# Altium schematic symbol library WE-AGDT.SchLib: 29 symbols
Pins are listed as number, name and electrical type; pins without a type are passive.

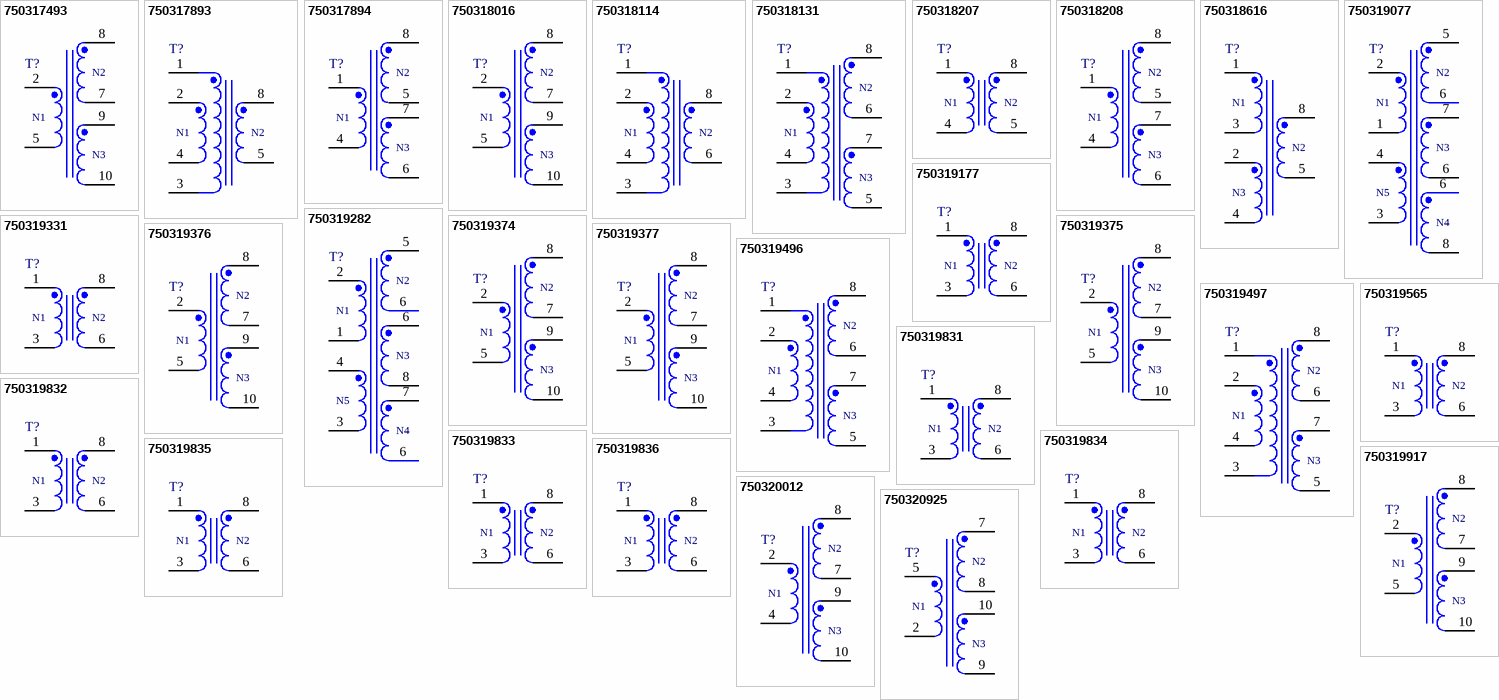
[diagram p0: symbols 750317493 to 750320925]

## 750317493
designator T?, comment 15Vin, 20 / 20Vout  (value not drawn)
WE-AGDT Auxiliary Gate Drive Transformer, SMT, 2015, 15Vin, 20 / 20Vout, 900uH; Manufacturer Part Number: 750317493; Manufacturer: Wurth Elektronik; Case/Size Code: 2015; IC Reference: IR2085S; Input Voltage: 15V; Interwinding Capacitance: 7pF; Output Power: 4W; Output Voltage: 20V; Switching Frequency: 100kHz; Turns Ratio: 1:1.07:1.07; Type: Half-Bridge; Voltage-µSecond: 147Vus; Product Series: WE-AGDT; ComponentLink1Description: Website Link; ComponentLink1URL: https://www.we-online.com; ComponentLink2Description: Datasheet Link; ComponentLink2URL: https://www.we-online.com/components/products/datasheet/750317493; Mount: Surface Mount; Operating Temperature Min: -40degC; Operating Temperature Max: 125degC; Packaging: Tape and Reel; Length: 20.48mm; Width: 15.32mm; Height: 10.3mm; Inductance: 900uH; Output Voltage 2: 20V
footprint WE-AGDT_2015
pins: 2, 5, 7, 8, 9, 10
text: N2; N1; N3

## 750317893
designator T?, comment 9-18Vin, 19Vout  (value not drawn)
WE-AGDT Auxiliary Gate Drive Transformer, SMT, EP7, 9-18Vin, 19Vout, 18uH; Manufacturer Part Number: 750317893; Manufacturer: Wurth Elektronik; IC Reference: LM5180; Input Voltage: 9-18V; Interwinding Capacitance: 6.8pF; Output Power: 3W; Output Voltage: 19V; Saturation Current: 1.95A; Switching Frequency: 350kHz; Turns Ratio: 1:2; Type: Flyback; Product Series: WE-AGDT; ComponentLink1Description: Website Link; ComponentLink1URL: https://www.we-online.com; ComponentLink2Description: Datasheet Link; ComponentLink2URL: https://www.we-online.com/components/products/datasheet/750317893; Mount: Surface Mount; Operating Temperature Min: -40degC; Operating Temperature Max: 130degC; Packaging: Tape and Reel; Case/Size Code: EP7; Length: 11.3mm; Width: 10.95mm; Height: 11.94mm; Inductance: 18uH
footprint WE-AGDT_EP7
simulation model 750317893
pins: 1, 2, 3, 4, 5, 8
text: N1; N2

## 750317894
designator T?, comment 9-18Vin, 15 / -4Vout  (value not drawn)
WE-AGDT Auxiliary Gate Drive Transformer, SMT, EP7, 9-18Vin, 15 / -4Vout, 18uH; Manufacturer Part Number: 750317894; Manufacturer: Wurth Elektronik; IC Reference: LM5180; Input Voltage: 9-18V; Interwinding Capacitance: 7pF; Output Power: 3W; Output Voltage: 15V; Output Voltage 2: -4V; Saturation Current: 1.6A; Switching Frequency: 350kHz; Turns Ratio: 2.25:3.5:1; Type: Flyback; Product Series: WE-AGDT; ComponentLink1Description: Website Link; ComponentLink1URL: https://www.we-online.com; ComponentLink2Description: Datasheet Link; ComponentLink2URL: https://www.we-online.com/components/products/datasheet/750317894; Mount: Surface Mount; Operating Temperature Min: -40degC; Operating Temperature Max: 130degC; Packaging: Tape and Reel; Case/Size Code: EP7; Length: 11.3mm; Width: 10.95mm; Height: 11.94mm; Inductance: 18uH
footprint WE-AGDT_EP7
simulation model 750317894
pins: 1, 4, 5, 6, 7, 8
text: N2; N1; N3

## 750318016
designator T?, comment 15Vin, 29 / 29Vout  (value not drawn)
WE-AGDT Auxiliary Gate Drive Transformer, SMT, 2015, 15Vin, 29 / 29Vout, 900uH; Manufacturer Part Number: 750318016; Manufacturer: Wurth Elektronik; Case/Size Code: 2015; IC Reference: IR2085S; Input Voltage: 15V; Interwinding Capacitance: 6pF; Output Power: 4.7W; Output Voltage: 29V; Switching Frequency: 100kHz; Turns Ratio: 1:1.07:1.07; Type: Half-Bridge; Voltage-µSecond: 157Vus; Product Series: WE-AGDT; ComponentLink1Description: Website Link; ComponentLink1URL: https://www.we-online.com; ComponentLink2Description: Datasheet Link; ComponentLink2URL: https://www.we-online.com/components/products/datasheet/750318016; Mount: Surface Mount; Operating Temperature Min: -40degC; Operating Temperature Max: 125degC; Packaging: Tape and Reel; Length: 20.48mm; Width: 15.32mm; Height: 10.3mm; Inductance: 900uH; Output Voltage 2: 29V
footprint WE-AGDT_2015
pins: 2, 5, 7, 8, 9, 10
text: N2; N1; N3

## 750318114
designator T?, comment 9-18Vin, 19Vout  (value not drawn)
WE-AGDT Auxiliary Gate Drive Transformer, SMT, EP7, 9-18Vin, 19Vout, 6uH; Manufacturer Part Number: 750318114; Manufacturer: Wurth Elektronik; IC Reference: LT8302; Input Voltage: 9-18V; Interwinding Capacitance: 6.8pF; Output Power: 6W; Output Voltage: 19V; Saturation Current: 6.2A; Switching Frequency: 350kHz; Turns Ratio: 1:2; Type: Flyback; Product Series: WE-AGDT; ComponentLink1Description: Website Link; ComponentLink1URL: https://www.we-online.com; ComponentLink2Description: Datasheet Link; ComponentLink2URL: https://www.we-online.com/components/products/datasheet/750318114; Mount: Surface Mount; Operating Temperature Min: -40degC; Operating Temperature Max: 130degC; Packaging: Tape and Reel; Case/Size Code: EP7; Length: 11.3mm; Width: 10.95mm; Height: 11.94mm; Inductance: 6uH
footprint WE-AGDT_EP7
simulation model 750318114
pins: 1, 2, 3, 4, 6, 8
text: N1; N2

## 750318131
designator T?, comment 9-18Vin, 15 / -4Vout  (value not drawn)
WE-AGDT Auxiliary Gate Drive Transformer, SMT, EP7, 9-18Vin, 15 / -4Vout, 7uH; Manufacturer Part Number: 750318131; Manufacturer: Wurth Elektronik; IC Reference: LT8302; Input Voltage: 9-18V; Interwinding Capacitance: 7.5pF; Output Power: 6W; Output Voltage: 15V; Output Voltage 2: -4V; Saturation Current: 5A; Switching Frequency: 350kHz; Turns Ratio: 2.25:3.5:1; Type: Flyback; Product Series: WE-AGDT; ComponentLink1Description: Website Link; ComponentLink1URL: https://www.we-online.com; ComponentLink2Description: Datasheet Link; ComponentLink2URL: https://www.we-online.com/components/products/datasheet/750318131; Mount: Surface Mount; Operating Temperature Min: -40degC; Operating Temperature Max: 130degC; Packaging: Tape and Reel; Case/Size Code: EP7; Length: 11.3mm; Width: 10.95mm; Height: 11.94mm; Inductance: 7uH
footprint WE-AGDT_EP7
simulation model 750318131
pins: 1, 2, 3, 4, 5, 6, 7, 8
text: N2; N1; N3

## 750318207
designator T?, comment 18-36Vin, 19Vout  (value not drawn)
WE-AGDT Auxiliary Gate Drive Transformer, SMT, EP7, 18-36Vin, 19Vout, 27uH; Manufacturer Part Number: 750318207; Manufacturer: Wurth Elektronik; IC Reference: LM5180; Input Voltage: 18-36V; Interwinding Capacitance: 8.2pF; Output Power: 5W; Output Voltage: 19V; Saturation Current: 2A; Switching Frequency: 350kHz; Turns Ratio: 1:1.2; Type: Flyback; Product Series: WE-AGDT; ComponentLink1Description: Website Link; ComponentLink1URL: https://www.we-online.com; ComponentLink2Description: Datasheet Link; ComponentLink2URL: https://www.we-online.com/components/products/datasheet/750318207; Mount: Surface Mount; Operating Temperature Min: -40degC; Operating Temperature Max: 130degC; Packaging: Tape and Reel; Case/Size Code: EP7; Length: 11.3mm; Width: 10.95mm; Height: 11.94mm; Inductance: 27uH
footprint WE-AGDT_EP7
simulation model 750318207
pins: 1, 4, 5, 8
text: N1; N2

## 750318208
designator T?, comment 18-36Vin, 15 / -4Vout  (value not drawn)
WE-AGDT Auxiliary Gate Drive Transformer, SMT, EP7, 18-36Vin, 15 / -4Vout, 27uH; Manufacturer Part Number: 750318208; Manufacturer: Wurth Elektronik; IC Reference: LM5180; Input Voltage: 18-36V; Interwinding Capacitance: 7pF; Output Power: 5W; Output Voltage: 15V; Output Voltage 2: -4V; Saturation Current: 1.5A; Switching Frequency: 350kHz; Turns Ratio: 3.5:3.5:1; Type: Flyback; Product Series: WE-AGDT; ComponentLink1Description: Website Link; ComponentLink1URL: https://www.we-online.com; ComponentLink2Description: Datasheet Link; ComponentLink2URL: https://www.we-online.com/components/products/datasheet/750318208; Mount: Surface Mount; Operating Temperature Min: -40degC; Operating Temperature Max: 130degC; Packaging: Tape and Reel; Case/Size Code: EP7; Length: 11.3mm; Width: 10.95mm; Height: 11.94mm; Inductance: 27uH
footprint WE-AGDT_EP7
simulation model 750318208
pins: 1, 4, 5, 6, 7, 8
text: N2; N1; N3

## 750318616
designator T?, comment 7-31Vin, 27Vout  (value not drawn)
WE-AGDT Auxiliary Gate Drive Transformer, SMT, EP7, 7-31Vin, 27Vout, 10uH; Manufacturer Part Number: 750318616; Manufacturer: Wurth Elektronik; Auxiliary Voltage: 13V; IC Reference: STGAP4S; Input Voltage: 7-31V; Interwinding Capacitance: 3.25pF; Output Power: 2.7W; Output Voltage: 27V; Saturation Current: 2A; Switching Frequency: 400kHz; Turns Ratio: 1.2:2:1; Type: Flyback; Product Series: WE-AGDT; ComponentLink1Description: Website Link; ComponentLink1URL: https://www.we-online.com; ComponentLink2Description: Datasheet Link; ComponentLink2URL: https://www.we-online.com/components/products/datasheet/750318616; Mount: Surface Mount; Operating Temperature Min: -40degC; Operating Temperature Max: 130degC; Packaging: Tape and Reel; Case/Size Code: EP7; Length: 11.3mm; Width: 10.95mm; Height: 11.94mm; Inductance: 10uH
footprint WE-AGDT_EP7
simulation model 750318616
pins: 1, 2, 3, 4, 5, 8
text: N1; N2; N3

## 750319077
designator T?, comment 12-18Vin, 15 / 7.5 / 7.5Vout  (value not drawn)
WE-AGDT Auxiliary Gate Drive Transformer, SMT, EP7, 12-18Vin, 15 / 7.5 / 7.5Vout, 42uH; Manufacturer Part Number: 750319077; Manufacturer: Wurth Elektronik; Auxiliary Voltage: 5V; IC Reference: NCV(P)3064; Input Voltage: 12-18V; Interwinding Capacitance: 7.8pF; Output Power: 1.5W; Output Voltage: 15V; Output Voltage 2: 7.5V; Saturation Current: 1.25A; Switching Frequency: 150kHz; Turns Ratio: 2:2.86:1.43:1.43:1; Type: Flyback; Product Series: WE-AGDT; ComponentLink1Description: Website Link; ComponentLink1URL: https://www.we-online.com; ComponentLink2Description: Datasheet Link; ComponentLink2URL: https://www.we-online.com/components/products/datasheet/750319077; Mount: Surface Mount; Operating Temperature Min: -40degC; Operating Temperature Max: 130degC; Packaging: Tape and Reel; Case/Size Code: EP7; Length: 11.3mm; Width: 10.95mm; Height: 11.94mm; Inductance: 42uH; Output Voltage 3: 7.5V
footprint WE-AGDT_EP7
simulation model 750319077
pins: 1, 2, 3, 4, 5, 6, 7, 8
text: N2; N1; N3; N5; N4

## 750319177
designator T?, comment 7.5Vin, 13Vout  (value not drawn)
WE-AGDT Auxiliary Gate Drive Transformer, SMT, EP7, 7.5Vin, 13Vout, 16.5uH; Manufacturer Part Number: 750319177; Manufacturer: Wurth Elektronik; IC Reference: UCC25800; Input Voltage: 7.5V; Interwinding Capacitance: 0.68pF; Output Power: 4.55W; Output Voltage: 13V; Switching Frequency: 500kHz; Turns Ratio: 1:1.67; Type: LLC; Voltage-µSecond: 36Vus; Product Series: WE-AGDT; ComponentLink1Description: Website Link; ComponentLink1URL: https://www.we-online.com; ComponentLink2Description: Datasheet Link; ComponentLink2URL: https://www.we-online.com/components/products/datasheet/750319177; Mount: Surface Mount; Operating Temperature Min: -40degC; Operating Temperature Max: 130degC; Packaging: Tape and Reel; Case/Size Code: EP7; Length: 11.3mm; Width: 10.95mm; Height: 11.94mm; Inductance: 16.5uH
footprint WE-AGDT_EP7
simulation model 750319177
pins: 1, 3, 6, 8
text: N1; N2

## 750319282
designator T?, comment 6-18Vin, 20 / 5 / 5Vout  (value not drawn)
WE-AGDT Auxiliary Gate Drive Transformer, SMT, EP7, 6-18Vin, 20 / 5 / 5Vout, 42uH; Manufacturer Part Number: 750319282; Manufacturer: Wurth Elektronik; Auxiliary Voltage: 5V; IC Reference: NCV(P)3064; Input Voltage: 6-18V; Interwinding Capacitance: 6.4pF; Output Power: 1.5W; Output Voltage: 20V; Saturation Current: 1.2A; Switching Frequency: 150kHz; Turns Ratio: 1.56:3.89:1:1:1; Type: Flyback; Product Series: WE-AGDT; ComponentLink1Description: Website Link; ComponentLink1URL: https://www.we-online.com; ComponentLink2Description: Datasheet Link; ComponentLink2URL: https://www.we-online.com/components/products/datasheet/750319282; Mount: Surface Mount; Operating Temperature Min: -40degC; Operating Temperature Max: 130degC; Packaging: Tape and Reel; Case/Size Code: EP7; Length: 11.3mm; Width: 10.95mm; Height: 11.94mm; Inductance: 42uH; Output Voltage 2: 5V; Output Voltage 3: 5V
footprint WE-AGDT_EP7
simulation model 750319282
pins: 1, 2, 3, 4, 5, 6, 7, 8
text: N2; N1; N3; N5; N4

## 750319331
designator T?, comment 13Vin, 11.5Vout  (value not drawn)
WE-AGDT Auxiliary Gate Drive Transformer, SMT, EP7, 13Vin, 11.5Vout, 50uH; Manufacturer Part Number: 750319331; Manufacturer: Wurth Elektronik; IC Reference: UCC25800; Input Voltage: 13V; Interwinding Capacitance: 1.3pF; Output Power: 6W; Output Voltage: 11.5V; Switching Frequency: 500kHz; Turns Ratio: 1:1; Type: LLC; Voltage-µSecond: 60Vus; Product Series: WE-AGDT; ComponentLink1Description: Website Link; ComponentLink1URL: https://www.we-online.com; ComponentLink2Description: Datasheet Link; ComponentLink2URL: https://www.we-online.com/components/products/datasheet/750319331; Mount: Surface Mount; Operating Temperature Min: -40degC; Operating Temperature Max: 130degC; Packaging: Tape and Reel; Case/Size Code: EP7; Length: 11.3mm; Width: 10.95mm; Height: 11.94mm; Inductance: 50uH
footprint WE-AGDT_EP7
simulation model 750319331
pins: 1, 3, 6, 8
text: N1; N2

## 750319374
designator T?, comment 13.5Vin, 22.5 / 22.5Vout  (value not drawn)
WE-AGDT Auxiliary Gate Drive Transformer, SMT, 2015, 13.5Vin, 22.5 / 22.5Vout, 730uH; Manufacturer Part Number: 750319374; Manufacturer: Wurth Elektronik; Case/Size Code: 2015; IC Reference: 2EP130R; Input Voltage: 13.5V; Interwinding Capacitance: 4pF; Output Power: 5.9W; Output Voltage: 22.5V; Switching Frequency: 97kHz; Turns Ratio: 1.71:1:1; Type: Full-Bridge; Voltage-µSecond: 126Vus; Product Series: WE-AGDT; ComponentLink1Description: Website Link; ComponentLink1URL: https://www.we-online.com; ComponentLink2Description: Datasheet Link; ComponentLink2URL: https://www.we-online.com/components/products/datasheet/750319374; Mount: Surface Mount; Operating Temperature Min: -40degC; Operating Temperature Max: 125degC; Packaging: Tape and Reel; Length: 20.48mm; Width: 15.32mm; Height: 10.3mm; Inductance: 730uH; Output Voltage 2: 22.5V
footprint WE-AGDT_2015
pins: 2, 5, 7, 8, 9, 10
text: N2; N1; N3

## 750319375
designator T?, comment 15Vin, 22.5 / 22.5Vout  (value not drawn)
WE-AGDT Auxiliary Gate Drive Transformer, SMT, 2015, 15Vin, 22.5 / 22.5Vout, 710uH; Manufacturer Part Number: 750319375; Manufacturer: Wurth Elektronik; Case/Size Code: 2015; IC Reference: 2EP130R; Input Voltage: 15V; Interwinding Capacitance: 3pF; Output Power: 5.9W; Output Voltage: 22.5V; Switching Frequency: 65kHz; Turns Ratio: 1.25:1:1; Type: Full-Bridge; Voltage-µSecond: 105Vus; Product Series: WE-AGDT; ComponentLink1Description: Website Link; ComponentLink1URL: https://www.we-online.com; ComponentLink2Description: Datasheet Link; ComponentLink2URL: https://www.we-online.com/components/products/datasheet/750319375; Mount: Surface Mount; Operating Temperature Min: -40degC; Operating Temperature Max: 125degC; Packaging: Tape and Reel; Length: 20.48mm; Width: 15.32mm; Height: 10.3mm; Inductance: 710uH; Output Voltage 2: 22.5V
footprint WE-AGDT_2015
pins: 2, 5, 7, 8, 9, 10
text: N2; N1; N3

## 750319376
designator T?, comment 15Vin, 19 / 19Vout  (value not drawn)
WE-AGDT Auxiliary Gate Drive Transformer, SMT, 2015, 15Vin, 19 / 19Vout, 750uH; Manufacturer Part Number: 750319376; Manufacturer: Wurth Elektronik; Case/Size Code: 2015; IC Reference: 2EP130R; Input Voltage: 15V; Interwinding Capacitance: 2.7pF; Output Power: 6W; Output Voltage: 19V; Switching Frequency: 65kHz; Turns Ratio: 1.5:1:1; Type: Full-Bridge; Voltage-µSecond: 95Vus; Product Series: WE-AGDT; ComponentLink1Description: Website Link; ComponentLink1URL: https://www.we-online.com; ComponentLink2Description: Datasheet Link; ComponentLink2URL: https://www.we-online.com/components/products/datasheet/750319376; Mount: Surface Mount; Operating Temperature Min: -40degC; Operating Temperature Max: 125degC; Packaging: Tape and Reel; Length: 20.48mm; Width: 15.32mm; Height: 10.3mm; Inductance: 750uH; Output Voltage 2: 19V
footprint WE-AGDT_2015
pins: 2, 5, 7, 8, 9, 10
text: N2; N1; N3

## 750319377
designator T?, comment 15Vin, 20.5 / 20.5Vout  (value not drawn)
WE-AGDT Auxiliary Gate Drive Transformer, SMT, 2015, 15Vin, 20.5 / 20.5Vout, 470uH; Manufacturer Part Number: 750319377; Manufacturer: Wurth Elektronik; Case/Size Code: 2015; IC Reference: 2EP130R; Input Voltage: 15V; Interwinding Capacitance: 1.6pF; Output Power: 6W; Output Voltage: 20.5V; Switching Frequency: 65kHz; Turns Ratio: 1.4:1:1; Type: Full-Bridge; Voltage-µSecond: 74Vus; Product Series: WE-AGDT; ComponentLink1Description: Website Link; ComponentLink1URL: https://www.we-online.com; ComponentLink2Description: Datasheet Link; ComponentLink2URL: https://www.we-online.com/components/products/datasheet/750319377; Mount: Surface Mount; Operating Temperature Min: -40degC; Operating Temperature Max: 125degC; Packaging: Tape and Reel; Length: 20.48mm; Width: 15.32mm; Height: 10.3mm; Inductance: 470uH; Output Voltage 2: 20.5V
footprint WE-AGDT_2015
pins: 2, 5, 7, 8, 9, 10
text: N2; N1; N3

## 750319496
designator T?, comment 9-18Vin, 20 / 5Vout  (value not drawn)
WE-AGDT Auxiliary Gate Drive Transformer, SMT, EP7, 9-18Vin, 20 / 5Vout, 7uH; Manufacturer Part Number: 750319496; Manufacturer: Wurth Elektronik; IC Reference: LT8302; Input Voltage: 9-18V; Interwinding Capacitance: 7.3pF; Output Power: 6W; Output Voltage: 20V; Output Voltage 2: 5V; Saturation Current: 4.5A; Switching Frequency: 350kHz; Turns Ratio: 1.8:3.6:1; Type: Flyback; Product Series: WE-AGDT; ComponentLink1Description: Website Link; ComponentLink1URL: https://www.we-online.com; ComponentLink2Description: Datasheet Link; ComponentLink2URL: https://www.we-online.com/components/products/datasheet/750319496; Mount: Surface Mount; Operating Temperature Min: -40degC; Operating Temperature Max: 130degC; Packaging: Tape and Reel; Case/Size Code: EP7; Length: 11.3mm; Width: 10.95mm; Height: 11.94mm; Inductance: 7uH
footprint WE-AGDT_EP7
simulation model 750319496
pins: 1, 2, 3, 4, 5, 6, 7, 8
text: N2; N1; N3

## 750319497
designator T?, comment 9-18Vin, 19 / 4Vout  (value not drawn)
WE-AGDT Auxiliary Gate Drive Transformer, SMT, EP7, 9-18Vin, 19 / 4Vout, 7uH; Manufacturer Part Number: 750319497; Manufacturer: Wurth Elektronik; IC Reference: LT8302; Input Voltage: 9-18V; Interwinding Capacitance: 7.5pF; Output Power: 6W; Output Voltage: 19V; Output Voltage 2: 4V; Saturation Current: 4.5A; Switching Frequency: 350kHz; Turns Ratio: 2.25:4.25:1; Type: Flyback; Product Series: WE-AGDT; ComponentLink1Description: Website Link; ComponentLink1URL: https://www.we-online.com; ComponentLink2Description: Datasheet Link; ComponentLink2URL: https://www.we-online.com/components/products/datasheet/750319497; Mount: Surface Mount; Operating Temperature Min: -40degC; Operating Temperature Max: 130degC; Packaging: Tape and Reel; Case/Size Code: EP7; Length: 11.3mm; Width: 10.95mm; Height: 11.94mm; Inductance: 7uH
footprint WE-AGDT_EP7
simulation model 750319497
pins: 1, 2, 3, 4, 5, 6, 7, 8
text: N2; N1; N3

## 750319565
designator T?, comment 15Vin, 30Vout  (value not drawn)
WE-AGDT Auxiliary Gate Drive Transformer, SMT, EP7, 15Vin, 30Vout, 256uH; Manufacturer Part Number: 750319565; Manufacturer: Wurth Elektronik; Input Voltage: 15V; Interwinding Capacitance: 2.1pF; Output Power: 3W; Output Voltage: 30V; Switching Frequency: 250kHz; Turns Ratio: 1:2; Type: Half-Bridge; Voltage-µSecond: 72Vus; Product Series: WE-AGDT; ComponentLink1Description: Website Link; ComponentLink1URL: https://www.we-online.com; ComponentLink2Description: Datasheet Link; ComponentLink2URL: https://www.we-online.com/components/products/datasheet/750319565; Mount: Surface Mount; Operating Temperature Min: -40degC; Operating Temperature Max: 130degC; Packaging: Tape and Reel; Case/Size Code: EP7; Length: 11.3mm; Width: 10.95mm; Height: 11.94mm; Inductance: 256uH
footprint WE-AGDT_EP7
simulation model 750319565
pins: 1, 3, 6, 8
text: N1; N2

## 750319831
designator T?, comment 15Vin, 6Vout  (value not drawn)
WE-AGDT Auxiliary Gate Drive Transformer, SMT, EP7, 15Vin, 6Vout, 56uH; Manufacturer Part Number: 750319831; Manufacturer: Wurth Elektronik; IC Reference: UCC25800; Input Voltage: 15V; Interwinding Capacitance: 2pF; Output Voltage: 6V; Switching Frequency: 500kHz; Turns Ratio: 2.2:1; Type: LLC; Voltage-µSecond: 64Vus; Product Series: WE-AGDT; ComponentLink1Description: Website Link; ComponentLink1URL: https://www.we-online.com; ComponentLink2Description: Datasheet Link; ComponentLink2URL: https://www.we-online.com/components/products/datasheet/750319831; Mount: Surface Mount; Operating Temperature Min: -40degC; Operating Temperature Max: 130degC; Packaging: Tape and Reel; Case/Size Code: EP7; Length: 11.3mm; Width: 10.95mm; Height: 11.94mm; Inductance: 56uH
footprint WE-AGDT_EP7
simulation model 750319831
pins: 1, 3, 6, 8
text: N1; N2

## 750319832
designator T?, comment 15Vin, 7.5Vout  (value not drawn)
WE-AGDT Auxiliary Gate Drive Transformer, SMT, EP7, 15Vin, 7.5Vout, 56uH; Manufacturer Part Number: 750319832; Manufacturer: Wurth Elektronik; IC Reference: UCC25800; Input Voltage: 15V; Interwinding Capacitance: 2pF; Output Voltage: 7.5V; Switching Frequency: 500kHz; Turns Ratio: 1.83:1; Type: LLC; Voltage-µSecond: 64Vus; Product Series: WE-AGDT; ComponentLink1Description: Website Link; ComponentLink1URL: https://www.we-online.com; ComponentLink2Description: Datasheet Link; ComponentLink2URL: https://www.we-online.com/components/products/datasheet/750319832; Mount: Surface Mount; Operating Temperature Min: -40degC; Operating Temperature Max: 130degC; Packaging: Tape and Reel; Case/Size Code: EP7; Length: 11.3mm; Width: 10.95mm; Height: 11.94mm; Inductance: 56uH
footprint WE-AGDT_EP7
simulation model 750319832
pins: 1, 3, 6, 8
text: N1; N2

## 750319833
designator T?, comment 15Vin, 12Vout  (value not drawn)
WE-AGDT Auxiliary Gate Drive Transformer, SMT, EP7, 15Vin, 12Vout, 67uH; Manufacturer Part Number: 750319833; Manufacturer: Wurth Elektronik; IC Reference: UCC25800; Input Voltage: 15V; Interwinding Capacitance: 2pF; Output Voltage: 12V; Switching Frequency: 500kHz; Turns Ratio: 1.2:1; Type: LLC; Voltage-µSecond: 70Vus; Product Series: WE-AGDT; ComponentLink1Description: Website Link; ComponentLink1URL: https://www.we-online.com; ComponentLink2Description: Datasheet Link; ComponentLink2URL: https://www.we-online.com/components/products/datasheet/750319833; Mount: Surface Mount; Operating Temperature Min: -40degC; Operating Temperature Max: 130degC; Packaging: Tape and Reel; Case/Size Code: EP7; Length: 11.3mm; Width: 10.95mm; Height: 11.94mm; Inductance: 67uH
footprint WE-AGDT_EP7
simulation model 750319833
pins: 1, 3, 6, 8
text: N1; N2

## 750319834
designator T?, comment 7.5Vin, 7.5Vout  (value not drawn)
WE-AGDT Auxiliary Gate Drive Transformer, SMT, EP7, 7.5Vin, 7.5Vout, 67uH; Manufacturer Part Number: 750319834; Manufacturer: Wurth Elektronik; IC Reference: UCC25800; Input Voltage: 7.5V; Interwinding Capacitance: 2.6pF; Switching Frequency: 500kHz; Turns Ratio: 1:1.08; Type: LLC; Voltage-µSecond: 70Vus; Product Series: WE-AGDT; ComponentLink1Description: Website Link; ComponentLink1URL: https://www.we-online.com; ComponentLink2Description: Datasheet Link; ComponentLink2URL: https://www.we-online.com/components/products/datasheet/750319834; Mount: Surface Mount; Operating Temperature Min: -40degC; Operating Temperature Max: 130degC; Packaging: Tape and Reel; Case/Size Code: EP7; Length: 11.3mm; Width: 10.95mm; Height: 11.94mm; Inductance: 67uH; Output Voltage: 7.5V
footprint WE-AGDT_EP7
simulation model 750319834
pins: 1, 3, 6, 8
text: N1; N2

## 750319835
designator T?, comment 7.5Vin, 9Vout  (value not drawn)
WE-AGDT Auxiliary Gate Drive Transformer, SMT, EP7, 7.5Vin, 9Vout, 23uH; Manufacturer Part Number: 750319835; Manufacturer: Wurth Elektronik; IC Reference: UCC25800; Input Voltage: 7.5V; Interwinding Capacitance: 2.1pF; Output Voltage: 9V; Switching Frequency: 500kHz; Turns Ratio: 1:1.29; Type: LLC; Voltage-µSecond: 40Vus; Product Series: WE-AGDT; ComponentLink1Description: Website Link; ComponentLink1URL: https://www.we-online.com; ComponentLink2Description: Datasheet Link; ComponentLink2URL: https://www.we-online.com/components/products/datasheet/750319835; Mount: Surface Mount; Operating Temperature Min: -40degC; Operating Temperature Max: 130degC; Packaging: Tape and Reel; Case/Size Code: EP7; Length: 11.3mm; Width: 10.95mm; Height: 11.94mm; Inductance: 23uH
footprint WE-AGDT_EP7
simulation model 750319835
pins: 1, 3, 6, 8
text: N1; N2

## 750319836
designator T?, comment 6Vin, 9Vout  (value not drawn)
WE-AGDT Auxiliary Gate Drive Transformer, SMT, EP7, 6Vin, 9Vout, 23uH; Manufacturer Part Number: 750319836; Manufacturer: Wurth Elektronik; IC Reference: UCC25800; Input Voltage: 6V; Interwinding Capacitance: 2pF; Output Voltage: 9V; Switching Frequency: 500kHz; Turns Ratio: 1:1.57; Type: LLC; Voltage-µSecond: 40Vus; Product Series: WE-AGDT; ComponentLink1Description: Website Link; ComponentLink1URL: https://www.we-online.com; ComponentLink2Description: Datasheet Link; ComponentLink2URL: https://www.we-online.com/components/products/datasheet/750319836; Mount: Surface Mount; Operating Temperature Min: -40degC; Operating Temperature Max: 130degC; Packaging: Tape and Reel; Case/Size Code: EP7; Length: 11.3mm; Width: 10.95mm; Height: 11.94mm; Inductance: 23uH
footprint WE-AGDT_EP7
simulation model 750319836
pins: 1, 3, 6, 8
text: N1; N2

## 750319917
designator T?, comment 15.5Vin, 38 / 38Vout  (value not drawn)
WE-AGDT Auxiliary Gate Drive Transformer, SMT, 2015, 15.5Vin, 38 / 38Vout, 900uH; Manufacturer Part Number: 750319917; Manufacturer: Wurth Elektronik; Case/Size Code: 2015; IC Reference: 2EP130R; Input Voltage: 15.5V; Interwinding Capacitance: 8.8pF; Output Power: 4.6W; Output Voltage: 38V; Switching Frequency: 100kHz; Turns Ratio: 1:1.71:1.71; Type: Full-Bridge; Voltage-µSecond: 147Vus; Product Series: WE-AGDT; ComponentLink1Description: Website Link; ComponentLink1URL: https://www.we-online.com; ComponentLink2Description: Datasheet Link; ComponentLink2URL: https://www.we-online.com/components/products/datasheet/750319917; Mount: Surface Mount; Operating Temperature Min: -40degC; Operating Temperature Max: 125degC; Packaging: Tape and Reel; Length: 20.48mm; Width: 15.32mm; Height: 10.3mm; Inductance: 900uH; Output Voltage 2: 38V
footprint WE-AGDT_2015
pins: 2, 5, 7, 8, 9, 10
text: N2; N1; N3

## 750320012
designator T?, comment 12Vin, 12 / 12Vout  (value not drawn)
WE-AGDT Auxiliary Gate Drive Transformer, SMT, 2015, 12Vin, 12 / 12Vout, 64uH; Manufacturer Part Number: 750320012; Manufacturer: Wurth Elektronik; Case/Size Code: 2015; IC Reference: UCC25800; Input Voltage: 12V; Interwinding Capacitance: 4.1pF; Output Power: 2.4W; Switching Frequency: 500kHz; Turns Ratio: 1:1.14:1.14; Type: LLC; Voltage-µSecond: 74Vus; Product Series: WE-AGDT; ComponentLink1Description: Website Link; ComponentLink1URL: https://www.we-online.com; ComponentLink2Description: Datasheet Link; ComponentLink2URL: https://www.we-online.com/components/products/datasheet/750320012; Mount: Surface Mount; Operating Temperature Min: -40degC; Operating Temperature Max: 125degC; Packaging: Tape and Reel; Length: 20.48mm; Width: 15.32mm; Height: 10.3mm; Inductance: 64uH; Output Voltage: 12V; Output Voltage 2: 12V
footprint WE-AGDT_2015
pins: 2, 4, 7, 8, 9, 10
text: N2; N1; N3

## 750320925
designator T?, comment 15Vin, 20.5 / 20.5Vout  (value not drawn)
WE-AGDT Auxiliary Gate Drive Transformer, SMT, 2015, 15Vin, 20.5 / 20.5Vout, 470uH; Manufacturer Part Number: 750320925; Manufacturer: Wurth Elektronik; Case/Size Code: 2015; IC Reference: 2EP130R; Input Voltage: 15V; Interwinding Capacitance: 3.4pF; Output Power: 6W; Output Voltage: 20.5V; Switching Frequency: 65kHz; Turns Ratio: 1.4:1:1; Type: Full-Bridge; Voltage-µSecond: 74Vus; Product Series: WE-AGDT; ComponentLink1Description: Website Link; ComponentLink1URL: https://www.we-online.com; ComponentLink2Description: Datasheet Link; ComponentLink2URL: https://www.we-online.com/components/products/datasheet/750320925; Mount: Surface Mount; Operating Temperature Min: -40degC; Operating Temperature Max: 125degC; Packaging: Tape and Reel; Length: 20.48mm; Width: 15.32mm; Height: 10.3mm; Inductance: 470uH; Output Voltage 2: 20.5V
footprint WE-AGDT_2015
pins: 2, 5, 7, 8, 9, 10
text: N2; N1; N3